# Altium footprint library 排针-排母.PcbLib: 215 footprints (part 2 of 14)
Each footprint in its own frame and in the unit in brackets; x right, y up, seen from the top. Pads: shape width x height; smd on the part's side, far side on the other; paste and mask are expansions set on the pad; w line width, h text height; cw(c..) or ccw(c..) is an arc to the next point about the centre after c.
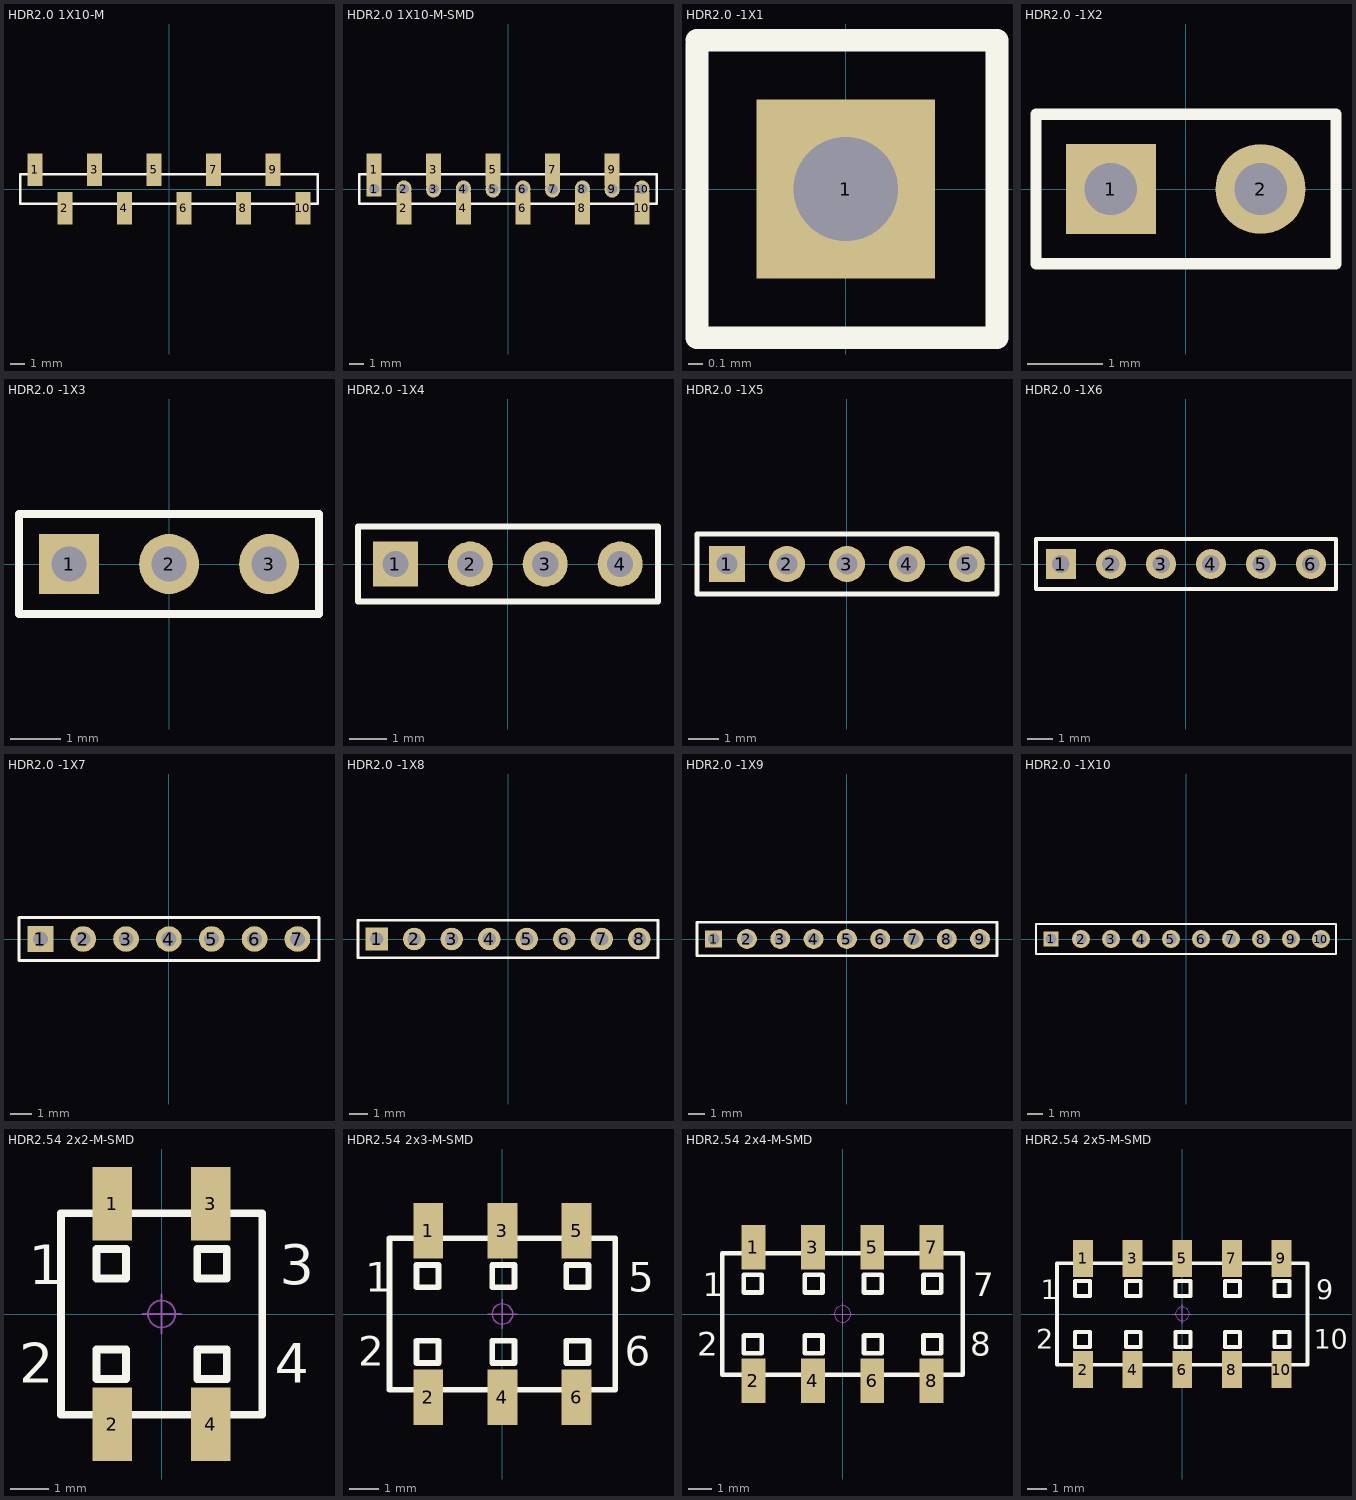
[diagram p1: the footprints below, top view; thin cyan lines are the x and y axes]

## HDR2.0 1X10-M [mil]
pads (10):
  rect 40x85 smd: 1(-354.33,51.06) 2(-275.59,-51.05) 3(-196.85,51.06) 4(-118.11,-51.05) 5(-39.37,51.06) 6(39.37,-51.05) 7(118.11,51.06) 8(196.85,-51.05) 9(275.59,51.06) 10(354.33,-51.05)
Top Overlay:
  lines w6: -393.7,-39.37 -393.7,39.37 393.7,39.37 393.7,-39.37 -393.7,-39.37

## HDR2.0 1X10-M-SMD [mil]
pads (20):
  rect 40x40 hole 27.56: 1(-354.33,0)
  rect 40x85 smd: 1(-354.33,51.06) 2(-275.59,-51.05) 3(-196.85,51.06) 4(-118.11,-51.05) 5(-39.37,51.06) 6(39.37,-51.05) 7(118.11,51.06) 8(196.85,-51.05) 9(275.59,51.06) 10(354.33,-51.05)
  oval 40x45 hole 27.56: 2(-275.59,0) 3(-196.85,0) 4(-118.11,0) 5(-39.37,0) 6(39.37,0) 7(118.11,0) 8(196.85,0) 9(275.59,0) 10(354.33,0)
Top Overlay:
  lines w6: -393.7,-39.37 393.7,-39.37 393.7,39.37 -393.7,39.37 -393.7,-39.37

## HDR2.0 -1X1 [mm]
pads (1):
  rect 1.2x1.2 hole 0.7: 1(0,0)
Top Overlay:
  lines w0.152: -1,0.965 -1,-1 1.016,-1 1.016,1 -1,1

## HDR2.0 -1X2 [mm]
pads (2):
  rect 1.2x1.2 hole 0.7: 1(-1,0)
  round 1.2 hole 0.7: 2(1,0)
Top Overlay:
  lines w0.152: -2,0.965 -2,-1 2.007,-1 2.007,1 -2,1

## HDR2.0 -1X3 [mm]
pads (3):
  rect 1.2x1.2 hole 0.7: 1(-2,0)
  round 1.2 hole 0.7: 2(0,0) 3(2,0)
Top Overlay:
  lines w0.152: -3,0.965 -3,-1 2.997,-1 2.997,1 -3,1

## HDR2.0 -1X4 [mm]
pads (4):
  rect 1.2x1.2 hole 0.7: 1(-3,0)
  round 1.2 hole 0.7: 2(-1,0) 3(1,0) 4(3,0)
Top Overlay:
  lines w0.152: -4,0.965 -4,-1 4.013,-1 4.013,1 -4,1

## HDR2.0 -1X5 [mm]
pads (5):
  rect 1.2x1.2 hole 0.7: 1(-4,0)
  round 1.2 hole 0.7: 2(-2,0) 3(0,0) 4(2,0) 5(4,0)
Top Overlay:
  lines w0.152: -5,0.965 -5,-1 5.004,-1 5.004,1 -5,1

## HDR2.0 -1X6 [mm]
pads (6):
  rect 1.2x1.2 hole 0.7: 1(-5,0)
  round 1.2 hole 0.7: 2(-3,0) 3(-1,0) 4(1,0) 5(3,0) 6(5,0)
Top Overlay:
  lines w0.152: -6,0.965 -6,-1 5.962,-1 ; -6,1 5.962,1 ; 6,-1 6,1

## HDR2.0 -1X7 [mm]
pads (7):
  rect 1.2x1.2 hole 0.7: 1(-6,0)
  round 1.2 hole 0.7: 2(-4,0) 3(-2,0) 4(0,0) 5(2,0) 6(4,0) 7(6,0)
Top Overlay:
  lines w0.152: -7,0.965 -7,-1 7.01,-1 7.01,1 -7,1

## HDR2.0 -1X8 [mm]
pads (8):
  rect 1.2x1.2 hole 0.7: 1(-7,0)
  round 1.2 hole 0.7: 2(-5,0) 3(-3,0) 4(-1,0) 5(1,0) 6(3,0) 7(5,0) 8(7,0)
Top Overlay:
  lines w0.152: -8,0.965 -8,-1 7.99,-1 ; -8,1 8,1 8,-1

## HDR2.0 -1X9 [mm]
pads (9):
  rect 1.016x1.016 hole 0.7: 1(-8,0)
  round 1.2 hole 0.7: 2(-6,0) 3(-4,0) 4(-2,0) 5(0,0) 6(2,0) 7(4,0) 8(6,0) 9(8,0)
Top Overlay:
  lines w0.152: -9,-1 -9,1 9.017,1 9.017,-1 -9,-1

## HDR2.0 -1X10 [mm]
pads (10):
  rect 1.016x1.016 hole 0.7: 1(-9,0)
  round 1.2 hole 0.7: 2(-7,0) 3(-5,0) 4(-3,0) 5(-1,0) 6(1,0) 7(3,0) 8(5,0) 9(7,0) 10(9,0)
Top Overlay:
  lines w0.152: -10,-1 10,-1 10,1 -10,1 -10,-1

## HDR2.54 2x2-M-SMD [mm] "脚距：2.54mm，贴片双排母"
pads (4):
  rect 1.02x1.9 smd: 1(-1.27,2.85) 2(-1.27,-2.85) 3(1.27,2.85) 4(1.27,-2.85)
Top Overlay:
  lines w0.2: -2.6,-2.6 2.6,-2.6 2.6,2.6 -2.6,2.6 -2.6,-2.6 ; -1.681,-1.681 -0.919,-1.681 -0.919,-0.919 -1.681,-0.919 -1.681,-1.681 ; -1.681,0.919 -0.919,0.919 -0.919,1.681 -1.681,1.681 -1.681,0.919 ; 0.919,-1.681 1.681,-1.681 1.681,-0.919 0.919,-0.919 0.919,-1.681 ; 0.919,0.919 1.681,0.919 1.681,1.681 0.919,1.681 0.919,0.919
  text "2" at -3.683,-1.778 h1.02
  text "1" at -3.429,0.762 h1.02
  text "3" at 3.048,0.762 h1.02
  text "4" at 2.921,-1.778 h1.02
Mechanical 15:
  circle w0.05: c0,0 r0.35
  lines w0.05: -0.5,0 0.5,0 ; 0,-0.5 0,0.5
3D body "HDR2.54 2x1P_M.STEP": height 5.15, standoff 0, extent -2.57,-3.2 0.03,3.2
3D body "HDR2.54 2x1P_M.STEP": height 5.15, standoff 0, extent -0.03,-3.2 2.57,3.2

## HDR2.54 2x3-M-SMD [mm] "脚距：2.54mm，贴片双排母"
pads (6):
  rect 1.02x1.9 smd: 1(-2.54,2.85) 2(-2.54,-2.85) 3(0,2.85) 4(0,-2.85) 5(2.54,2.85) 6(2.54,-2.85)
Top Overlay:
  lines w0.2: -3.87,-2.6 3.87,-2.6 3.87,2.6 -3.87,2.6 -3.87,-2.6 ; -2.951,-1.681 -2.189,-1.681 -2.189,-0.919 -2.951,-0.919 -2.951,-1.681 ; -2.951,0.919 -2.189,0.919 -2.189,1.681 -2.951,1.681 -2.951,0.919 ; -0.351,-1.681 0.411,-1.681 0.411,-0.919 -0.351,-0.919 -0.351,-1.681 ; -0.351,0.919 0.411,0.919 0.411,1.681 -0.351,1.681 -0.351,0.919 ; 2.189,-1.681 2.189,-0.919 2.951,-0.919 2.951,-1.681 2.189,-1.681 ; 2.189,0.919 2.189,1.681 2.951,1.681 2.951,0.919 2.189,0.919
  text "2" at -4.953,-1.778 h1.02
  text "1" at -4.699,0.762 h1.02
  text "6" at 4.191,-1.778 h1.02
  text "5" at 4.318,0.762 h1.02
Mechanical 15:
  circle w0.05: c0,0 r0.35
  lines w0.05: -0.5,0 0.5,0 ; 0,-0.5 0,0.5
3D body "HDR2.54 2x1P_M.STEP": height 5.15, standoff 0, extent -3.84,-3.2 -1.24,3.2
3D body "HDR2.54 2x1P_M.STEP": height 5.15, standoff 0, extent -1.3,-3.2 1.3,3.2
3D body "HDR2.54 2x1P_M.STEP": height 5.15, standoff 0, extent 1.24,-3.2 3.84,3.2

## HDR2.54 2x4-M-SMD [mm] "脚距：2.54mm，贴片双排母"
pads (8):
  rect 1.02x1.9 smd: 1(-3.81,2.85) 2(-3.81,-2.85) 3(-1.27,2.85) 4(-1.27,-2.85) 5(1.27,2.85) 6(1.27,-2.85) 7(3.81,2.85) 8(3.81,-2.85)
Top Overlay:
  lines w0.2: -5.15,-2.6 5.14,-2.6 5.14,2.6 -5.15,2.6 -5.15,-2.6 ; -4.221,-1.681 -4.221,-0.919 -3.459,-0.919 -3.459,-1.681 -4.221,-1.681 ; -4.221,0.919 -4.221,1.681 -3.459,1.681 -3.459,0.919 -4.221,0.919 ; -1.621,-1.681 -1.621,-0.919 -0.859,-0.919 -0.859,-1.681 -1.621,-1.681 ; -1.621,0.919 -1.621,1.681 -0.859,1.681 -0.859,0.919 -1.621,0.919 ; 0.919,-1.681 1.681,-1.681 1.681,-0.919 0.919,-0.919 0.919,-1.681 ; 0.919,0.919 1.681,0.919 1.681,1.681 0.919,1.681 0.919,0.919 ; 3.459,-1.681 3.459,-0.919 4.221,-0.919 4.221,-1.681 3.459,-1.681 ; 3.459,0.919 3.459,1.681 4.221,1.681 4.221,0.919 3.459,0.919
  text "8" at 5.461,-1.778 h1.02
  text "7" at 5.588,0.762 h1.02
  text "1" at -5.969,0.762 h1.02
  text "2" at -6.223,-1.778 h1.02
Mechanical 15:
  circle w0.05: c0,0 r0.35
  lines w0.05: -0.5,0 0.5,0 ; 0,-0.5 0,0.5
3D body "HDR2.54 2x1P_M.STEP": height 5.15, standoff 0, extent -0.03,-3.2 2.57,3.2
3D body "HDR2.54 2x1P_M.STEP": height 5.15, standoff 0, extent -2.57,-3.2 0.03,3.2
3D body "HDR2.54 2x1P_M.STEP": height 5.15, standoff 0, extent -5.11,-3.2 -2.51,3.2
3D body "HDR2.54 2x1P_M.STEP": height 5.15, standoff 0, extent 2.51,-3.2 5.11,3.2

## HDR2.54 2x5-M-SMD [mm] "脚距：2.54mm，贴片双排母"
pads (10):
  rect 1.02x1.9 smd: 1(-5.08,2.85) 2(-5.08,-2.85) 3(-2.54,2.85) 4(-2.54,-2.85) 5(0,2.85) 6(0,-2.85) 7(2.54,2.85) 8(2.54,-2.85) 9(5.08,2.85) 10(5.08,-2.85)
Top Overlay:
  lines w0.2: -6.42,-2.6 6.41,-2.6 6.41,2.6 -6.42,2.6 -6.42,-2.6 ; -5.491,-1.681 -5.491,-0.919 -4.729,-0.919 -4.729,-1.681 -5.491,-1.681 ; -5.491,0.919 -5.491,1.681 -4.729,1.681 -4.729,0.919 -5.491,0.919 ; -2.891,-1.681 -2.891,-0.919 -2.129,-0.919 -2.129,-1.681 -2.891,-1.681 ; -2.891,0.919 -2.891,1.681 -2.129,1.681 -2.129,0.919 -2.891,0.919 ; -0.351,-1.681 0.411,-1.681 0.411,-0.919 -0.351,-0.919 -0.351,-1.681 ; -0.351,0.919 0.411,0.919 0.411,1.681 -0.351,1.681 -0.351,0.919 ; 2.189,-1.681 2.189,-0.919 2.951,-0.919 2.951,-1.681 2.189,-1.681 ; 2.189,0.919 2.189,1.681 2.951,1.681 2.951,0.919 2.189,0.919 ; 4.729,-1.681 4.729,-0.919 5.491,-0.919 5.491,-1.681 4.729,-1.681 ; 4.729,0.919 4.729,1.681 5.491,1.681 5.491,0.919 4.729,0.919
  text "1" at -7.239,0.762 h1.02
  text "2" at -7.493,-1.778 h1.02
  text "9" at 6.858,0.762 h1.02
  text "10" at 6.731,-1.778 h1.02
Mechanical 15:
  circle w0.05: c0,0 r0.35
  lines w0.05: -0.5,0 0.5,0 ; 0,-0.5 0,0.5
3D body "HDR2.54 2x1P_M.STEP": height 5.15, standoff 0, extent -1.3,-3.2 1.3,3.2
3D body "HDR2.54 2x1P_M.STEP": height 5.15, standoff 0, extent -3.84,-3.2 -1.24,3.2
3D body "HDR2.54 2x1P_M.STEP": height 5.15, standoff 0, extent -6.38,-3.2 -3.78,3.2
3D body "HDR2.54 2x1P_M.STEP": height 5.15, standoff 0, extent 1.24,-3.2 3.84,3.2
3D body "HDR2.54 2x1P_M.STEP": height 5.15, standoff 0, extent 3.78,-3.2 6.38,3.2